# EAGLE library part 418127160904 (library Eagle_Wuerth_Elektronik_Switch)
WS-IC-2.54 mm small compact THT Dip Switch with top tape,8 pins,4 poles
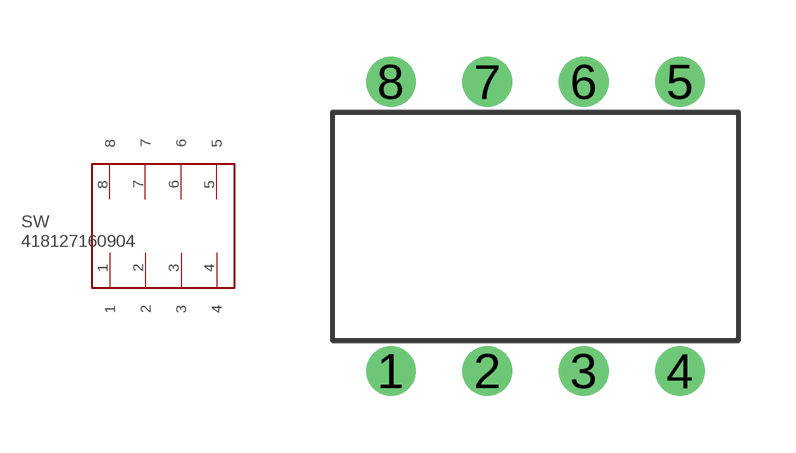
[diagram p49: symbol with the pads of 418127160904; footprint 418127160904]

Designator prefix SW

## 418127160904  [418127160904]
1  1
2  2
3  3
4  4
5  5
6  6
7  7
8  8

## Footprint 418127160904 (pad centres in mm)
WS-IC-2.54 mm small compact THT Dip Switch with top tape,8 pins,4 poles
drill 0.8: 1 0,-3.81; 2 2.54,-3.81; 3 5.08,-3.81; 4 7.62,-3.81; 5 7.62,3.81; 6 5.08,3.81; 7 2.54,3.81; 8 0,3.81